# Altium schematic symbol library S2B-PH-SM4-TB_LF__SN_.SchLib: 1 symbol
Pins are listed as number, name and electrical type; pins without a type are passive.

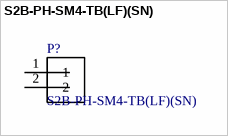
[diagram p0: symbol S2B-PH-SM4-TB(LF)(SN)]

## S2B-PH-SM4-TB(LF)(SN)
designator P?
Connector Header Surface Mount, Right Angle 2 position 0.079 _2.00mm_; MF: JST Sales; MP: S2B-PH-SM4-TB _LF__SN_; Price: None; Package: None; SnapEDA_Link: https://www.snapeda.com/parts/S2B-PH-SM4-TB%20%28LF%29%28SN%29/JST%20Sales%20America%20Inc./view-part/104386/?ref=snap; Availability: Unavailable; Value: *
footprint *JST_S2B-PH-SM4-TB(LF)(SN)
pins: 1, 2